# Altium integrated library Analog Devices RF IF Mixers and Multipliers.IntLib: 40 symbols (part 1 of 3)
Pins are listed as number, name and electrical type; pins without a type are passive.

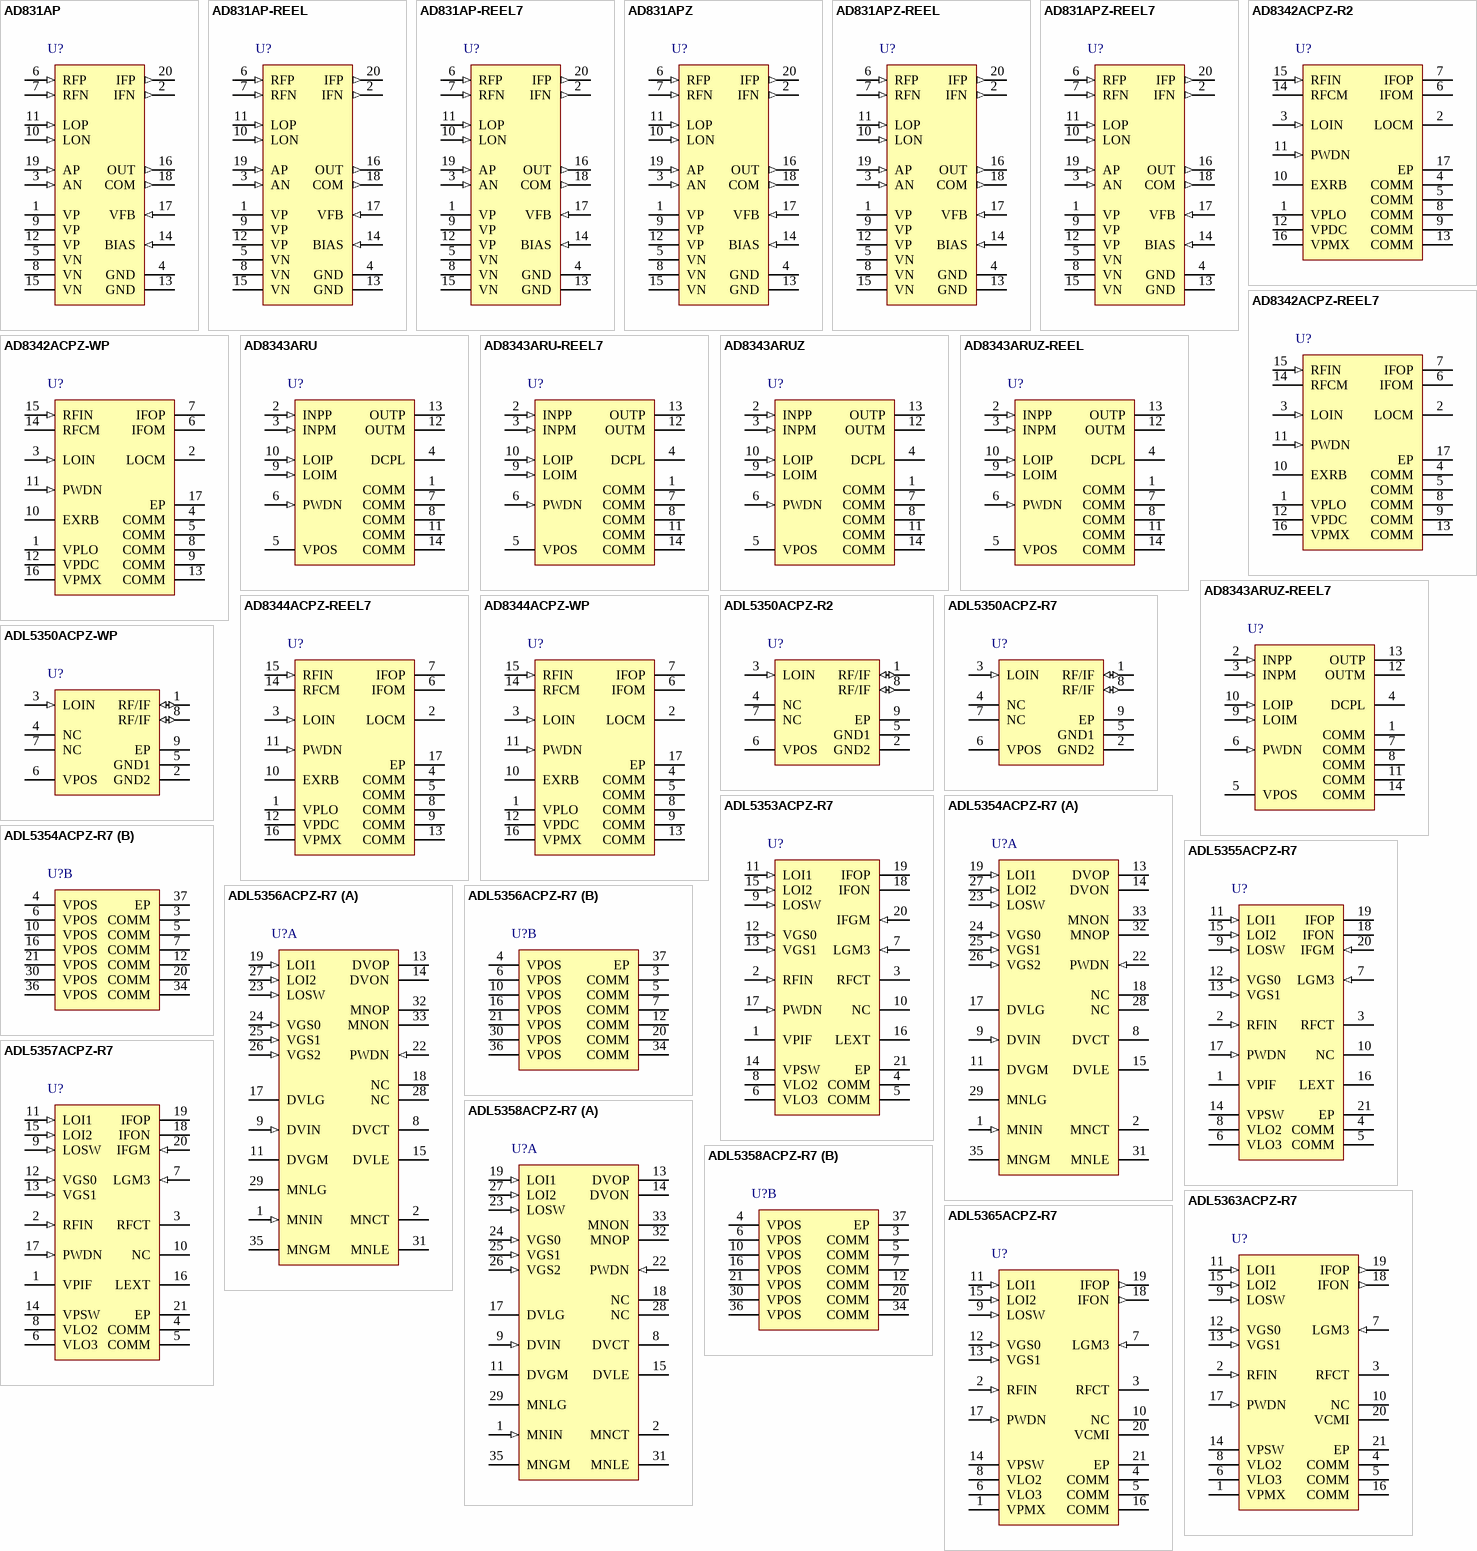
[diagram p0: symbols AD831AP to ADL5365ACPZ-R7]

## AD831AP
designator U?
Low Distortion Mixer, 100mA Supply Current, P-20A, 49 	Tube; RF Frequency (MHZ): 400; IF Frequency (MHz): 200; Conversion Gain (dB): 0dB; IP3 (dBm): 24; P1dB (dBm): 10; NF (dB): 14dB; DatasheetVersion: Rev. C; PackageVersion: Nov-2002; PackageReference: P-20A; PackageDescription: 20-Lead Plastic Leaded Chip Carrier [PLCC]; LO Frequency (MHz): 400; Code_JEDEC: MO-047AA; ComponentLink1Description: Manufacturer URL; ComponentLink1URL: www.analog.com; ComponentLink2Description: Datasheet; ComponentLink2URL: http://www.analog.com/static/imported-files/data_sheets/AD831.pdf; ComponentLink3Description: Package Specification; ComponentLink3URL: http://www.analog.com/static/imported-files/packages/3121431516544404277643669223804694P20A.pdf
footprint ADI-P-20A_N (Leaded Chip Carrier, 20-Leads, Body 9x9mm, Pitch 1.27mm, IPC Medium Density)
footprint ADI-P-20A_L (Leaded Chip Carrier, 20-Leads, Body 9x9mm, Pitch 1.27mm, IPC High Density)
footprint ADI-P-20A_M (Leaded Chip Carrier, 20-Leads, Body 9x9mm, Pitch 1.27mm, IPC Low Density)
pins: 1 VP (power) "Positive Supply Input", 2 IFN (out) "Mixer Current Output", 3 AN (in) "Amplifier Negative Input", 4 GND (power) "Ground", 5 VN (power) "Negative Supply Input", 6 RFP (in) "RF Input", 7 RFN (in) "RF Input", 8 VN (power) "Negative Supply Input", 9 VP (power) "Positive Supply Input", 10 LON (in) "Local Oscillator Input", 11 LOP (in) "Local Oscillator Input", 12 VP (power) "Positive Supply Input", 13 GND (power) "Ground", 14 BIAS (in) "Bias Input", 15 VN (power) "Negative Supply Input", 16 OUT (out) "Amplifier Output", 17 VFB (in) "Amplifier Feedback Input", 18 COM (out) "Amplifier Output Common", 19 AP (in) "Amplifier Positive Input", 20 IFP (out) "Mixer Current Output"

## AD831AP-REEL
designator U?
Low Distortion Mixer, 100mA Supply Current, P-20A, 1000 Reel; RF Frequency (MHZ): 400; IF Frequency (MHz): 200; Conversion Gain (dB): 0dB; IP3 (dBm): 24; P1dB (dBm): 10; NF (dB): 14dB; DatasheetVersion: Rev. C; PackageVersion: Nov-2002; PackageReference: P-20A; PackageDescription: 20-Lead Plastic Leaded Chip Carrier [PLCC]; LO Frequency (MHz): 400; Code_JEDEC: MO-047AA; ComponentLink1Description: Manufacturer URL; ComponentLink1URL: www.analog.com; ComponentLink2Description: Datasheet; ComponentLink2URL: http://www.analog.com/static/imported-files/data_sheets/AD831.pdf; ComponentLink3Description: Package Specification; ComponentLink3URL: http://www.analog.com/static/imported-files/packages/3121431516544404277643669223804694P20A.pdf
footprint ADI-P-20A_N (Leaded Chip Carrier, 20-Leads, Body 9x9mm, Pitch 1.27mm, IPC Medium Density)
footprint ADI-P-20A_L (Leaded Chip Carrier, 20-Leads, Body 9x9mm, Pitch 1.27mm, IPC High Density)
footprint ADI-P-20A_M (Leaded Chip Carrier, 20-Leads, Body 9x9mm, Pitch 1.27mm, IPC Low Density)
pins: 1 VP (power) "Positive Supply Input", 2 IFN (out) "Mixer Current Output", 3 AN (in) "Amplifier Negative Input", 4 GND (power) "Ground", 5 VN (power) "Negative Supply Input", 6 RFP (in) "RF Input", 7 RFN (in) "RF Input", 8 VN (power) "Negative Supply Input", 9 VP (power) "Positive Supply Input", 10 LON (in) "Local Oscillator Input", 11 LOP (in) "Local Oscillator Input", 12 VP (power) "Positive Supply Input", 13 GND (power) "Ground", 14 BIAS (in) "Bias Input", 15 VN (power) "Negative Supply Input", 16 OUT (out) "Amplifier Output", 17 VFB (in) "Amplifier Feedback Input", 18 COM (out) "Amplifier Output Common", 19 AP (in) "Amplifier Positive Input", 20 IFP (out) "Mixer Current Output"

## AD831AP-REEL7
designator U?
Low Distortion Mixer, 100mA Supply Current, P-20A, 250 Reel; RF Frequency (MHZ): 400; IF Frequency (MHz): 200; Conversion Gain (dB): 0dB; IP3 (dBm): 24; P1dB (dBm): 10; NF (dB): 14dB; DatasheetVersion: Rev. C; PackageVersion: Nov-2002; PackageReference: P-20A; PackageDescription: 20-Lead Plastic Leaded Chip Carrier [PLCC]; LO Frequency (MHz): 400; Code_JEDEC: MO-047AA; ComponentLink1Description: Manufacturer URL; ComponentLink1URL: www.analog.com; ComponentLink2Description: Datasheet; ComponentLink2URL: http://www.analog.com/static/imported-files/data_sheets/AD831.pdf; ComponentLink3Description: Package Specification; ComponentLink3URL: http://www.analog.com/static/imported-files/packages/3121431516544404277643669223804694P20A.pdf
footprint ADI-P-20A_N (Leaded Chip Carrier, 20-Leads, Body 9x9mm, Pitch 1.27mm, IPC Medium Density)
footprint ADI-P-20A_L (Leaded Chip Carrier, 20-Leads, Body 9x9mm, Pitch 1.27mm, IPC High Density)
footprint ADI-P-20A_M (Leaded Chip Carrier, 20-Leads, Body 9x9mm, Pitch 1.27mm, IPC Low Density)
pins: 1 VP (power) "Positive Supply Input", 2 IFN (out) "Mixer Current Output", 3 AN (in) "Amplifier Negative Input", 4 GND (power) "Ground", 5 VN (power) "Negative Supply Input", 6 RFP (in) "RF Input", 7 RFN (in) "RF Input", 8 VN (power) "Negative Supply Input", 9 VP (power) "Positive Supply Input", 10 LON (in) "Local Oscillator Input", 11 LOP (in) "Local Oscillator Input", 12 VP (power) "Positive Supply Input", 13 GND (power) "Ground", 14 BIAS (in) "Bias Input", 15 VN (power) "Negative Supply Input", 16 OUT (out) "Amplifier Output", 17 VFB (in) "Amplifier Feedback Input", 18 COM (out) "Amplifier Output Common", 19 AP (in) "Amplifier Positive Input", 20 IFP (out) "Mixer Current Output"

## AD831APZ
designator U?
Low Distortion Mixer, 100mA Supply Current, P-20A, Pb-Free, 49 	Tube; RF Frequency (MHZ): 400; IF Frequency (MHz): 200; Conversion Gain (dB): 0dB; IP3 (dBm): 24; P1dB (dBm): 10; NF (dB): 14dB; DatasheetVersion: Rev. C; PackageVersion: Nov-2002; PackageReference: P-20A; PackageDescription: 20-Lead Plastic Leaded Chip Carrier [PLCC]; LO Frequency (MHz): 400; Code_JEDEC: MO-047AA; ComponentLink1Description: Manufacturer URL; ComponentLink1URL: www.analog.com; ComponentLink2Description: Datasheet; ComponentLink2URL: http://www.analog.com/static/imported-files/data_sheets/AD831.pdf; ComponentLink3Description: Package Specification; ComponentLink3URL: http://www.analog.com/static/imported-files/packages/3121431516544404277643669223804694P20A.pdf
footprint ADI-P-20A_N (Leaded Chip Carrier, 20-Leads, Body 9x9mm, Pitch 1.27mm, IPC Medium Density)
footprint ADI-P-20A_L (Leaded Chip Carrier, 20-Leads, Body 9x9mm, Pitch 1.27mm, IPC High Density)
footprint ADI-P-20A_M (Leaded Chip Carrier, 20-Leads, Body 9x9mm, Pitch 1.27mm, IPC Low Density)
pins: 1 VP (power) "Positive Supply Input", 2 IFN (out) "Mixer Current Output", 3 AN (in) "Amplifier Negative Input", 4 GND (power) "Ground", 5 VN (power) "Negative Supply Input", 6 RFP (in) "RF Input", 7 RFN (in) "RF Input", 8 VN (power) "Negative Supply Input", 9 VP (power) "Positive Supply Input", 10 LON (in) "Local Oscillator Input", 11 LOP (in) "Local Oscillator Input", 12 VP (power) "Positive Supply Input", 13 GND (power) "Ground", 14 BIAS (in) "Bias Input", 15 VN (power) "Negative Supply Input", 16 OUT (out) "Amplifier Output", 17 VFB (in) "Amplifier Feedback Input", 18 COM (out) "Amplifier Output Common", 19 AP (in) "Amplifier Positive Input", 20 IFP (out) "Mixer Current Output"

## AD831APZ-REEL
designator U?
Low Distortion Mixer, 100mA Supply Current, P-20A, Pb-Free, 1000 Reel; RF Frequency (MHZ): 400; IF Frequency (MHz): 200; Conversion Gain (dB): 0dB; IP3 (dBm): 24; P1dB (dBm): 10; NF (dB): 14dB; DatasheetVersion: Rev. C; PackageVersion: Nov-2002; PackageReference: P-20A; PackageDescription: 20-Lead Plastic Leaded Chip Carrier [PLCC]; LO Frequency (MHz): 400; Code_JEDEC: MO-047AA; ComponentLink1Description: Manufacturer URL; ComponentLink1URL: www.analog.com; ComponentLink2Description: Datasheet; ComponentLink2URL: http://www.analog.com/static/imported-files/data_sheets/AD831.pdf; ComponentLink3Description: Package Specification; ComponentLink3URL: http://www.analog.com/static/imported-files/packages/3121431516544404277643669223804694P20A.pdf
footprint ADI-P-20A_N (Leaded Chip Carrier, 20-Leads, Body 9x9mm, Pitch 1.27mm, IPC Medium Density)
footprint ADI-P-20A_L (Leaded Chip Carrier, 20-Leads, Body 9x9mm, Pitch 1.27mm, IPC High Density)
footprint ADI-P-20A_M (Leaded Chip Carrier, 20-Leads, Body 9x9mm, Pitch 1.27mm, IPC Low Density)
pins: 1 VP (power) "Positive Supply Input", 2 IFN (out) "Mixer Current Output", 3 AN (in) "Amplifier Negative Input", 4 GND (power) "Ground", 5 VN (power) "Negative Supply Input", 6 RFP (in) "RF Input", 7 RFN (in) "RF Input", 8 VN (power) "Negative Supply Input", 9 VP (power) "Positive Supply Input", 10 LON (in) "Local Oscillator Input", 11 LOP (in) "Local Oscillator Input", 12 VP (power) "Positive Supply Input", 13 GND (power) "Ground", 14 BIAS (in) "Bias Input", 15 VN (power) "Negative Supply Input", 16 OUT (out) "Amplifier Output", 17 VFB (in) "Amplifier Feedback Input", 18 COM (out) "Amplifier Output Common", 19 AP (in) "Amplifier Positive Input", 20 IFP (out) "Mixer Current Output"

## AD831APZ-REEL7
designator U?
Low Distortion Mixer, 100mA Supply Current, P-20A, Pb-Free, 250 Reel; RF Frequency (MHZ): 400; IF Frequency (MHz): 200; Conversion Gain (dB): 0dB; IP3 (dBm): 24; P1dB (dBm): 10; NF (dB): 14dB; DatasheetVersion: Rev. C; PackageVersion: Nov-2002; PackageReference: P-20A; PackageDescription: 20-Lead Plastic Leaded Chip Carrier [PLCC]; LO Frequency (MHz): 400; Code_JEDEC: MO-047AA; ComponentLink1Description: Manufacturer URL; ComponentLink1URL: www.analog.com; ComponentLink2Description: Datasheet; ComponentLink2URL: http://www.analog.com/static/imported-files/data_sheets/AD831.pdf; ComponentLink3Description: Package Specification; ComponentLink3URL: http://www.analog.com/static/imported-files/packages/3121431516544404277643669223804694P20A.pdf
footprint ADI-P-20A_N (Leaded Chip Carrier, 20-Leads, Body 9x9mm, Pitch 1.27mm, IPC Medium Density)
footprint ADI-P-20A_L (Leaded Chip Carrier, 20-Leads, Body 9x9mm, Pitch 1.27mm, IPC High Density)
footprint ADI-P-20A_M (Leaded Chip Carrier, 20-Leads, Body 9x9mm, Pitch 1.27mm, IPC Low Density)
pins: 1 VP (power) "Positive Supply Input", 2 IFN (out) "Mixer Current Output", 3 AN (in) "Amplifier Negative Input", 4 GND (power) "Ground", 5 VN (power) "Negative Supply Input", 6 RFP (in) "RF Input", 7 RFN (in) "RF Input", 8 VN (power) "Negative Supply Input", 9 VP (power) "Positive Supply Input", 10 LON (in) "Local Oscillator Input", 11 LOP (in) "Local Oscillator Input", 12 VP (power) "Positive Supply Input", 13 GND (power) "Ground", 14 BIAS (in) "Bias Input", 15 VN (power) "Negative Supply Input", 16 OUT (out) "Amplifier Output", 17 VFB (in) "Amplifier Feedback Input", 18 COM (out) "Amplifier Output Common", 19 AP (in) "Amplifier Positive Input", 20 IFP (out) "Mixer Current Output"

## AD8342ACPZ-R2
designator U?
Active Receive Mixer LF to 3 GHz, 97mA Supply Current, CP-16-3, Pb-Free, 250 Reel; RF Frequency (MHZ): LF to 2400; Conversion Gain (dB): 3dB; IP3 (dBm): 24; P1dB (dBm): 8.5; NF (dB): 12dB; DatasheetVersion: Rev. B; PackageVersion: Jan-2005; PackageReference: CP-16-3; PackageDescription: 16-Lead Lead Frame Chip Scale Package [LFCSP_VQ]; IF Frequency (MHz): LF to 2400; LO Frequency (MHz): LF to 2400; Code_JEDEC: MO-220-VEED-2; ComponentLink1Description: Manufacturer URL; ComponentLink1URL: www.analog.com; ComponentLink2Description: Datasheet; ComponentLink2URL: http://www.analog.com/static/imported-files/data_sheets/AD8342.pdf; ComponentLink3Description: Package Specification; ComponentLink3URL: http://www.analog.com/static/imported-files/packages/PKG_PDF/LFCSP(CP)/CP_16_3.pdf
footprint ADI-CP-16-3_N (QFN, 16-Leads, Body 3x3mm, Pitch 0.5mm, Thermal Pad 1.5x1.5mm, IPC Medium Density)
footprint ADI-CP-16-3_L (QFN, 16-Leads, Body 3x3mm, Pitch 0.5mm, Thermal Pad 1.5x1.5mm, IPC High Density)
footprint ADI-CP-16-3_M (QFN, 16-Leads, Body 3x3mm, Pitch 0.5mm, Thermal Pad 1.5x1.5mm, IPC Low Density)
pins: 1 VPLO (power) "Positive Supply Voltage for the LO Buffer: 4.75 V to 5.25 V.", 2 LOCM "AC Ground for Limiting LO Amplifier, AC-Coupled to Ground.", 3 LOIN (in) "LO Input. Nominal input level 0 dBm, input level range -10 dBm to +4 dBm, re: 50 ?, ac-coupled.", 4 COMM (power) "Device Common (DC Ground).", 5 COMM (power) "Device Common (DC Ground).", 6 IFOM (oc) "Differential IF Outputs; Open Collectors, Each Requires DC Bias of 5.00 V (Nominal).", 7 IFOP (oc) "Differential IF Outputs; Open Collectors, Each Requires DC Bias of 5.00 V (Nominal).", 8 COMM (power) "Device Common (DC Ground).", 9 COMM (power) "Device Common (DC Ground).", 10 EXRB "Mixer Bias Voltage, Connect Resistor from EXRB to Ground, Typical Value of 2.43 k ohm  Sets Mixer Current to Nominal Value. Minimum resistor value from EXRB to ground = 2.4 k ohm.", 11 PWDN (in) "Connect to Ground for Normal Operation. Connect pin to VS for disable mode.", 12 VPDC (power) "Positive Supply Voltage for the DC Bias Cell: 4.75 V to 5.25 V.", 13 COMM (power) "Device Common (DC Ground).", 14 RFCM "AC Ground for RF Input, AC-Coupled to Ground.", 15 RFIN (in) "RF Input. Must be ac-coupled.", 16 VPMX (power) "Positive Supply Voltage for the Mixer: 4.75 V to 5.25 V.", 17 EP (power) "Exposed pad."

## AD8342ACPZ-REEL7
designator U?
Active Receive Mixer LF to 3 GHz, 97mA Supply Current, CP-16-3, Pb-Free, 1500 Reel; RF Frequency (MHZ): LF to 2400; Conversion Gain (dB): 3dB; IP3 (dBm): 24; P1dB (dBm): 8.5; NF (dB): 12dB; DatasheetVersion: Rev. B; PackageVersion: Jan-2005; PackageReference: CP-16-3; PackageDescription: 16-Lead Lead Frame Chip Scale Package [LFCSP_VQ]; IF Frequency (MHz): LF to 2400; LO Frequency (MHz): LF to 2400; Code_JEDEC: MO-220-VEED-2; ComponentLink1Description: Manufacturer URL; ComponentLink1URL: www.analog.com; ComponentLink2Description: Datasheet; ComponentLink2URL: http://www.analog.com/static/imported-files/data_sheets/AD8342.pdf; ComponentLink3Description: Package Specification; ComponentLink3URL: http://www.analog.com/static/imported-files/packages/PKG_PDF/LFCSP(CP)/CP_16_3.pdf
footprint ADI-CP-16-3_N (QFN, 16-Leads, Body 3x3mm, Pitch 0.5mm, Thermal Pad 1.5x1.5mm, IPC Medium Density)
footprint ADI-CP-16-3_L (QFN, 16-Leads, Body 3x3mm, Pitch 0.5mm, Thermal Pad 1.5x1.5mm, IPC High Density)
footprint ADI-CP-16-3_M (QFN, 16-Leads, Body 3x3mm, Pitch 0.5mm, Thermal Pad 1.5x1.5mm, IPC Low Density)
pins: 1 VPLO (power) "Positive Supply Voltage for the LO Buffer: 4.75 V to 5.25 V.", 2 LOCM "AC Ground for Limiting LO Amplifier, AC-Coupled to Ground.", 3 LOIN (in) "LO Input. Nominal input level 0 dBm, input level range -10 dBm to +4 dBm, re: 50 ?, ac-coupled.", 4 COMM (power) "Device Common (DC Ground).", 5 COMM (power) "Device Common (DC Ground).", 6 IFOM (oc) "Differential IF Outputs; Open Collectors, Each Requires DC Bias of 5.00 V (Nominal).", 7 IFOP (oc) "Differential IF Outputs; Open Collectors, Each Requires DC Bias of 5.00 V (Nominal).", 8 COMM (power) "Device Common (DC Ground).", 9 COMM (power) "Device Common (DC Ground).", 10 EXRB "Mixer Bias Voltage, Connect Resistor from EXRB to Ground, Typical Value of 2.43 k ohm  Sets Mixer Current to Nominal Value. Minimum resistor value from EXRB to ground = 2.4 k ohm.", 11 PWDN (in) "Connect to Ground for Normal Operation. Connect pin to VS for disable mode.", 12 VPDC (power) "Positive Supply Voltage for the DC Bias Cell: 4.75 V to 5.25 V.", 13 COMM (power) "Device Common (DC Ground).", 14 RFCM "AC Ground for RF Input, AC-Coupled to Ground.", 15 RFIN (in) "RF Input. Must be ac-coupled.", 16 VPMX (power) "Positive Supply Voltage for the Mixer: 4.75 V to 5.25 V.", 17 EP (power) "Exposed pad."

## AD8342ACPZ-WP
designator U?
Active Receive Mixer LF to 3 GHz, 97mA Supply Current, CP-16-3, Pb-Free, 50 Tray; RF Frequency (MHZ): LF to 2400; Conversion Gain (dB): 3dB; IP3 (dBm): 24; P1dB (dBm): 8.5; NF (dB): 12dB; DatasheetVersion: Rev. B; PackageVersion: Jan-2005; PackageReference: CP-16-3; PackageDescription: 16-Lead Lead Frame Chip Scale Package [LFCSP_VQ]; IF Frequency (MHz): LF to 2400; LO Frequency (MHz): LF to 2400; Code_JEDEC: MO-220-VEED-2; ComponentLink1Description: Manufacturer URL; ComponentLink1URL: www.analog.com; ComponentLink2Description: Datasheet; ComponentLink2URL: http://www.analog.com/static/imported-files/data_sheets/AD8342.pdf; ComponentLink3Description: Package Specification; ComponentLink3URL: http://www.analog.com/static/imported-files/packages/PKG_PDF/LFCSP(CP)/CP_16_3.pdf
footprint ADI-CP-16-3_N (QFN, 16-Leads, Body 3x3mm, Pitch 0.5mm, Thermal Pad 1.5x1.5mm, IPC Medium Density)
footprint ADI-CP-16-3_L (QFN, 16-Leads, Body 3x3mm, Pitch 0.5mm, Thermal Pad 1.5x1.5mm, IPC High Density)
footprint ADI-CP-16-3_M (QFN, 16-Leads, Body 3x3mm, Pitch 0.5mm, Thermal Pad 1.5x1.5mm, IPC Low Density)
pins: 1 VPLO (power) "Positive Supply Voltage for the LO Buffer: 4.75 V to 5.25 V.", 2 LOCM "AC Ground for Limiting LO Amplifier, AC-Coupled to Ground.", 3 LOIN (in) "LO Input. Nominal input level 0 dBm, input level range -10 dBm to +4 dBm, re: 50 ?, ac-coupled.", 4 COMM (power) "Device Common (DC Ground).", 5 COMM (power) "Device Common (DC Ground).", 6 IFOM (oc) "Differential IF Outputs; Open Collectors, Each Requires DC Bias of 5.00 V (Nominal).", 7 IFOP (oc) "Differential IF Outputs; Open Collectors, Each Requires DC Bias of 5.00 V (Nominal).", 8 COMM (power) "Device Common (DC Ground).", 9 COMM (power) "Device Common (DC Ground).", 10 EXRB "Mixer Bias Voltage, Connect Resistor from EXRB to Ground, Typical Value of 2.43 k ohm  Sets Mixer Current to Nominal Value. Minimum resistor value from EXRB to ground = 2.4 k ohm.", 11 PWDN (in) "Connect to Ground for Normal Operation. Connect pin to VS for disable mode.", 12 VPDC (power) "Positive Supply Voltage for the DC Bias Cell: 4.75 V to 5.25 V.", 13 COMM (power) "Device Common (DC Ground).", 14 RFCM "AC Ground for RF Input, AC-Coupled to Ground.", 15 RFIN (in) "RF Input. Must be ac-coupled.", 16 VPMX (power) "Positive Supply Voltage for the Mixer: 4.75 V to 5.25 V.", 17 EP (power) "Exposed pad."

## AD8343ARU
designator U?
DC-to-2.5 GHz High IP3 Active Mixer, 50mA Supply Current, RU-14, 96 Tube; RF Frequency (MHZ): dc to 2500; LO Drive (dBm): 10; Conversion Gain (dB): 7dB; IP3 (dBm): 16.5; P1dB (dBm): 2.8; NF (dB): 14dB; DatasheetVersion: Rev. B; PackageVersion: Aug-2002; PackageReference: RU-14; PackageDescription: 14-Lead Thin Shrink Small Outline Package [TSSOP]; IF Frequency (MHz): dc to 2500; LO Frequency (MHz): dc to 2500; Code_JEDEC: MO-153AB-1; ComponentLink1Description: Manufacturer URL; ComponentLink1URL: www.analog.com; ComponentLink2Description: Datasheet; ComponentLink2URL: http://www.analog.com/static/imported-files/data_sheets/AD8343.pdf; ComponentLink3Description: Package Specification; ComponentLink3URL: http://www.analog.com/static/imported-files/packages/36057385283879153717235186773RU14.pdf
footprint ADI-RU-14_N (TSOP, 14-Leads, Body 5x4.4mm, Pitch 0.65mm, IPC Medium Density)
footprint ADI-RU-14_L (TSOP, 14-Leads, Body 5x4.4mm, Pitch 0.65mm, IPC High Density)
footprint ADI-RU-14_M (TSOP, 14-Leads, Body 5x4.4mm, Pitch 0.65mm, IPC Low Density)
pins: 1 COMM (power) "Connect to low impedance circuit ground.", 2 INPP (in) "Differential Input Pin. This pin needs to be dc-biased and typically ac-coupled; see Figure 3.", 3 INPM (in) "Differential Input Pin. This pin needs to be dc-biased and typically ac-coupled; see Figure 3.", 4 DCPL "Bias rail decoupling capacitor connection for LO driver; see Figure 6.", 5 VPOS (power) "Positive Supply Voltage (VS), 4.5 V to 5.5 V. Ensure adequate supply bypassing for proper device operation as shown in the Applications section", 6 PWDN (in) "Power-Down Interface. Connect pin to ground for normal operating mode. Connect pin to supply for powerdown mode; see Figure 5", 7 COMM (power) "Connect to low impedance circuit ground.", 8 COMM (power) "Connect to low impedance circuit ground.", 9 LOIM (in) "Differential Local Oscillator (LO) Input Pin. Typically ac-coupled; see Figure 4", 10 LOIP (in) "Differential Local Oscillator (LO) Input Pin. Typically ac-coupled; see Figure 4", 11 COMM (power) "Connect to low impedance circuit ground.", 12 OUTM (oc) "Open-Collector Differential Output Pin. This pin needs to be dc-biased and (usually) ac-coupled; see Figure 3.", 13 OUTP (oc) "Open-Collector Differential Output Pin. This pin needs to be dc-biased and (usually) ac-coupled; see Figure 3.", 14 COMM (power) "Connect to low impedance circuit ground."

## AD8343ARU-REEL7
designator U?
DC-to-2.5 GHz High IP3 Active Mixer, 50mA Supply Current, RU-14, 1000 Reel; RF Frequency (MHZ): dc to 2500; LO Drive (dBm): 10; Conversion Gain (dB): 7dB; IP3 (dBm): 16.5; P1dB (dBm): 2.8; NF (dB): 14dB; DatasheetVersion: Rev. B; PackageVersion: Aug-2002; PackageReference: RU-14; PackageDescription: 14-Lead Thin Shrink Small Outline Package [TSSOP]; IF Frequency (MHz): dc to 2500; LO Frequency (MHz): dc to 2500; Code_JEDEC: MO-153AB-1; ComponentLink1Description: Manufacturer URL; ComponentLink1URL: www.analog.com; ComponentLink2Description: Datasheet; ComponentLink2URL: http://www.analog.com/static/imported-files/data_sheets/AD8343.pdf; ComponentLink3Description: Package Specification; ComponentLink3URL: http://www.analog.com/static/imported-files/packages/36057385283879153717235186773RU14.pdf
footprint ADI-RU-14_N (TSOP, 14-Leads, Body 5x4.4mm, Pitch 0.65mm, IPC Medium Density)
footprint ADI-RU-14_L (TSOP, 14-Leads, Body 5x4.4mm, Pitch 0.65mm, IPC High Density)
footprint ADI-RU-14_M (TSOP, 14-Leads, Body 5x4.4mm, Pitch 0.65mm, IPC Low Density)
pins: 1 COMM (power) "Connect to low impedance circuit ground.", 2 INPP (in) "Differential Input Pin. This pin needs to be dc-biased and typically ac-coupled; see Figure 3.", 3 INPM (in) "Differential Input Pin. This pin needs to be dc-biased and typically ac-coupled; see Figure 3.", 4 DCPL "Bias rail decoupling capacitor connection for LO driver; see Figure 6.", 5 VPOS (power) "Positive Supply Voltage (VS), 4.5 V to 5.5 V. Ensure adequate supply bypassing for proper device operation as shown in the Applications section", 6 PWDN (in) "Power-Down Interface. Connect pin to ground for normal operating mode. Connect pin to supply for powerdown mode; see Figure 5", 7 COMM (power) "Connect to low impedance circuit ground.", 8 COMM (power) "Connect to low impedance circuit ground.", 9 LOIM (in) "Differential Local Oscillator (LO) Input Pin. Typically ac-coupled; see Figure 4", 10 LOIP (in) "Differential Local Oscillator (LO) Input Pin. Typically ac-coupled; see Figure 4", 11 COMM (power) "Connect to low impedance circuit ground.", 12 OUTM (oc) "Open-Collector Differential Output Pin. This pin needs to be dc-biased and (usually) ac-coupled; see Figure 3.", 13 OUTP (oc) "Open-Collector Differential Output Pin. This pin needs to be dc-biased and (usually) ac-coupled; see Figure 3.", 14 COMM (power) "Connect to low impedance circuit ground."

## AD8343ARUZ
designator U?
DC-to-2.5 GHz High IP3 Active Mixer, 50mA Supply Current, RU-14, Pb-Free, 96 Tube; RF Frequency (MHZ): dc to 2500; LO Drive (dBm): 10; Conversion Gain (dB): 7dB; IP3 (dBm): 16.5; P1dB (dBm): 2.8; NF (dB): 14dB; DatasheetVersion: Rev. B; PackageVersion: Aug-2002; PackageReference: RU-14; PackageDescription: 14-Lead Thin Shrink Small Outline Package [TSSOP]; IF Frequency (MHz): dc to 2500; LO Frequency (MHz): dc to 2500; Code_JEDEC: MO-153AB-1; ComponentLink1Description: Manufacturer URL; ComponentLink1URL: www.analog.com; ComponentLink2Description: Datasheet; ComponentLink2URL: http://www.analog.com/static/imported-files/data_sheets/AD8343.pdf; ComponentLink3Description: Package Specification; ComponentLink3URL: http://www.analog.com/static/imported-files/packages/36057385283879153717235186773RU14.pdf
footprint ADI-RU-14_N (TSOP, 14-Leads, Body 5x4.4mm, Pitch 0.65mm, IPC Medium Density)
footprint ADI-RU-14_L (TSOP, 14-Leads, Body 5x4.4mm, Pitch 0.65mm, IPC High Density)
footprint ADI-RU-14_M (TSOP, 14-Leads, Body 5x4.4mm, Pitch 0.65mm, IPC Low Density)
pins: 1 COMM (power) "Connect to low impedance circuit ground.", 2 INPP (in) "Differential Input Pin. This pin needs to be dc-biased and typically ac-coupled; see Figure 3.", 3 INPM (in) "Differential Input Pin. This pin needs to be dc-biased and typically ac-coupled; see Figure 3.", 4 DCPL "Bias rail decoupling capacitor connection for LO driver; see Figure 6.", 5 VPOS (power) "Positive Supply Voltage (VS), 4.5 V to 5.5 V. Ensure adequate supply bypassing for proper device operation as shown in the Applications section", 6 PWDN (in) "Power-Down Interface. Connect pin to ground for normal operating mode. Connect pin to supply for powerdown mode; see Figure 5", 7 COMM (power) "Connect to low impedance circuit ground.", 8 COMM (power) "Connect to low impedance circuit ground.", 9 LOIM (in) "Differential Local Oscillator (LO) Input Pin. Typically ac-coupled; see Figure 4", 10 LOIP (in) "Differential Local Oscillator (LO) Input Pin. Typically ac-coupled; see Figure 4", 11 COMM (power) "Connect to low impedance circuit ground.", 12 OUTM (oc) "Open-Collector Differential Output Pin. This pin needs to be dc-biased and (usually) ac-coupled; see Figure 3.", 13 OUTP (oc) "Open-Collector Differential Output Pin. This pin needs to be dc-biased and (usually) ac-coupled; see Figure 3.", 14 COMM (power) "Connect to low impedance circuit ground."

## AD8343ARUZ-REEL
designator U?
DC-to-2.5 GHz High IP3 Active Mixer, 50mA Supply Current, RU-14, Pb-Free, 2500 Reel; RF Frequency (MHZ): dc to 2500; LO Drive (dBm): 10; Conversion Gain (dB): 7dB; IP3 (dBm): 16.5; P1dB (dBm): 2.8; NF (dB): 14dB; DatasheetVersion: Rev. B; PackageVersion: Aug-2002; PackageReference: RU-14; PackageDescription: 14-Lead Thin Shrink Small Outline Package [TSSOP]; IF Frequency (MHz): dc to 2500; LO Frequency (MHz): dc to 2500; Code_JEDEC: MO-153AB-1; ComponentLink1Description: Manufacturer URL; ComponentLink1URL: www.analog.com; ComponentLink2Description: Datasheet; ComponentLink2URL: http://www.analog.com/static/imported-files/data_sheets/AD8343.pdf; ComponentLink3Description: Package Specification; ComponentLink3URL: http://www.analog.com/static/imported-files/packages/36057385283879153717235186773RU14.pdf
footprint ADI-RU-14_N (TSOP, 14-Leads, Body 5x4.4mm, Pitch 0.65mm, IPC Medium Density)
footprint ADI-RU-14_L (TSOP, 14-Leads, Body 5x4.4mm, Pitch 0.65mm, IPC High Density)
footprint ADI-RU-14_M (TSOP, 14-Leads, Body 5x4.4mm, Pitch 0.65mm, IPC Low Density)
pins: 1 COMM (power) "Connect to low impedance circuit ground.", 2 INPP (in) "Differential Input Pin. This pin needs to be dc-biased and typically ac-coupled; see Figure 3.", 3 INPM (in) "Differential Input Pin. This pin needs to be dc-biased and typically ac-coupled; see Figure 3.", 4 DCPL "Bias rail decoupling capacitor connection for LO driver; see Figure 6.", 5 VPOS (power) "Positive Supply Voltage (VS), 4.5 V to 5.5 V. Ensure adequate supply bypassing for proper device operation as shown in the Applications section", 6 PWDN (in) "Power-Down Interface. Connect pin to ground for normal operating mode. Connect pin to supply for powerdown mode; see Figure 5", 7 COMM (power) "Connect to low impedance circuit ground.", 8 COMM (power) "Connect to low impedance circuit ground.", 9 LOIM (in) "Differential Local Oscillator (LO) Input Pin. Typically ac-coupled; see Figure 4", 10 LOIP (in) "Differential Local Oscillator (LO) Input Pin. Typically ac-coupled; see Figure 4", 11 COMM (power) "Connect to low impedance circuit ground.", 12 OUTM (oc) "Open-Collector Differential Output Pin. This pin needs to be dc-biased and (usually) ac-coupled; see Figure 3.", 13 OUTP (oc) "Open-Collector Differential Output Pin. This pin needs to be dc-biased and (usually) ac-coupled; see Figure 3.", 14 COMM (power) "Connect to low impedance circuit ground."

## AD8343ARUZ-REEL7
designator U?
DC-to-2.5 GHz High IP3 Active Mixer, 50mA Supply Current, RU-14, Pb-Free, 1000 Reel; RF Frequency (MHZ): dc to 2500; LO Drive (dBm): 10; Conversion Gain (dB): 7dB; IP3 (dBm): 16.5; P1dB (dBm): 2.8; NF (dB): 14dB; DatasheetVersion: Rev. B; PackageVersion: Aug-2002; PackageReference: RU-14; PackageDescription: 14-Lead Thin Shrink Small Outline Package [TSSOP]; IF Frequency (MHz): dc to 2500; LO Frequency (MHz): dc to 2500; Code_JEDEC: MO-153AB-1; ComponentLink1Description: Manufacturer URL; ComponentLink1URL: www.analog.com; ComponentLink2Description: Datasheet; ComponentLink2URL: http://www.analog.com/static/imported-files/data_sheets/AD8343.pdf; ComponentLink3Description: Package Specification; ComponentLink3URL: http://www.analog.com/static/imported-files/packages/36057385283879153717235186773RU14.pdf
footprint ADI-RU-14_N (TSOP, 14-Leads, Body 5x4.4mm, Pitch 0.65mm, IPC Medium Density)
footprint ADI-RU-14_L (TSOP, 14-Leads, Body 5x4.4mm, Pitch 0.65mm, IPC High Density)
footprint ADI-RU-14_M (TSOP, 14-Leads, Body 5x4.4mm, Pitch 0.65mm, IPC Low Density)
pins: 1 COMM (power) "Connect to low impedance circuit ground.", 2 INPP (in) "Differential Input Pin. This pin needs to be dc-biased and typically ac-coupled; see Figure 3.", 3 INPM (in) "Differential Input Pin. This pin needs to be dc-biased and typically ac-coupled; see Figure 3.", 4 DCPL "Bias rail decoupling capacitor connection for LO driver; see Figure 6.", 5 VPOS (power) "Positive Supply Voltage (VS), 4.5 V to 5.5 V. Ensure adequate supply bypassing for proper device operation as shown in the Applications section", 6 PWDN (in) "Power-Down Interface. Connect pin to ground for normal operating mode. Connect pin to supply for powerdown mode; see Figure 5", 7 COMM (power) "Connect to low impedance circuit ground.", 8 COMM (power) "Connect to low impedance circuit ground.", 9 LOIM (in) "Differential Local Oscillator (LO) Input Pin. Typically ac-coupled; see Figure 4", 10 LOIP (in) "Differential Local Oscillator (LO) Input Pin. Typically ac-coupled; see Figure 4", 11 COMM (power) "Connect to low impedance circuit ground.", 12 OUTM (oc) "Open-Collector Differential Output Pin. This pin needs to be dc-biased and (usually) ac-coupled; see Figure 3.", 13 OUTP (oc) "Open-Collector Differential Output Pin. This pin needs to be dc-biased and (usually) ac-coupled; see Figure 3.", 14 COMM (power) "Connect to low impedance circuit ground."

## AD8344ACPZ-REEL7
designator U?
Active Receive Mixer 400 MHz to 1.2 GHz, 84mA Supply Current, CP-16-3, Pb-Free, 1500 Reel; RF Frequency (MHZ): 400 to 1200; IF Frequency (MHz): 70 to 400; LO Frequency (MHz): 470 to 1600; Conversion Gain (dB): 4.5dB; IP3 (dBm): 24; P1dB (dBm): 8.5; NF (dB): 10dB; DatasheetVersion: Rev. 0; PackageVersion: Jan-2005; PackageReference: CP-16-3; PackageDescription: 16-Lead Lead Frame Chip Scale Package [LFCSP_VQ]; Code_JEDEC: MO-220-VEED-2; ComponentLink1Description: Manufacturer URL; ComponentLink1URL: www.analog.com; ComponentLink2Description: Datasheet; ComponentLink2URL: http://www.analog.com/static/imported-files/data_sheets/AD8344.pdf; ComponentLink3Description: Package Specification; ComponentLink3URL: http://www.analog.com/static/imported-files/packages/PKG_PDF/LFCSP(CP)/CP_16_3.pdf
footprint ADI-CP-16-3_N (QFN, 16-Leads, Body 3x3mm, Pitch 0.5mm, Thermal Pad 1.5x1.5mm, IPC Medium Density)
footprint ADI-CP-16-3_L (QFN, 16-Leads, Body 3x3mm, Pitch 0.5mm, Thermal Pad 1.5x1.5mm, IPC High Density)
footprint ADI-CP-16-3_M (QFN, 16-Leads, Body 3x3mm, Pitch 0.5mm, Thermal Pad 1.5x1.5mm, IPC Low Density)
pins: 1 VPLO (power) "Positive Supply Voltage for the LO Buffer: 4.75 V to 5.25 V.", 2 LOCM "AC Ground for Limiting LO Amplifier, AC-Coupled to Ground.", 3 LOIN (in) "LO Input. Nominal input level 0 dBm, input level range -10 dBm to +4 dBm, re: 50 ?, ac-coupled.", 4 COMM (power) "Device Common (DC Ground).", 5 COMM (power) "Device Common (DC Ground).", 6 IFOM (oc) "Differential IF Outputs; Open Collectors, Each Requires DC Bias of 5.00 V (Nominal).", 7 IFOP (oc) "Differential IF Outputs; Open Collectors, Each Requires DC Bias of 5.00 V (Nominal).", 8 COMM (power) "Device Common (DC Ground).", 9 COMM (power) "Device Common (DC Ground).", 10 EXRB "Mixer Bias Voltage, Connect Resistor from EXRB to Ground, Typical Value of 2.43 kOHM  Sets Mixer Current to Nominal Value. Minimum resistor value from EXRB to ground = 2.4 kOHM.", 11 PWDN (in) "Connect to Ground for Normal Operation. Connect pin to VS for disable mode.", 12 VPDC (power) "Positive Supply Voltage for the DC Bias Cell: 4.75 V to 5.25 V.", 13 COMM (power) "Device Common (DC Ground).", 14 RFCM "AC Ground for RF Input, AC-Coupled to Ground.", 15 RFIN (in) "RF Input. Must be ac-coupled.", 16 VPMX (power) "Positive Supply Voltage for the Mixer: 4.75 V to 5.25 V.", 17 EP (power) "Exposed pad."

## AD8344ACPZ-WP
designator U?
Active Receive Mixer 400 MHz to 1.2 GHz, 84mA Supply Current, CP-16-3, Pb-Free, 50 Tray; RF Frequency (MHZ): 400 to 1200; IF Frequency (MHz): 70 to 400; LO Frequency (MHz): 470 to 1600; Conversion Gain (dB): 4.5dB; IP3 (dBm): 24; P1dB (dBm): 8.5; NF (dB): 10dB; DatasheetVersion: Rev. 0; PackageVersion: Jan-2005; PackageReference: CP-16-3; PackageDescription: 16-Lead Lead Frame Chip Scale Package [LFCSP_VQ]; Code_JEDEC: MO-220-VEED-2; ComponentLink1Description: Manufacturer URL; ComponentLink1URL: www.analog.com; ComponentLink2Description: Datasheet; ComponentLink2URL: http://www.analog.com/static/imported-files/data_sheets/AD8344.pdf; ComponentLink3Description: Package Specification; ComponentLink3URL: http://www.analog.com/static/imported-files/packages/PKG_PDF/LFCSP(CP)/CP_16_3.pdf
footprint ADI-CP-16-3_N (QFN, 16-Leads, Body 3x3mm, Pitch 0.5mm, Thermal Pad 1.5x1.5mm, IPC Medium Density)
footprint ADI-CP-16-3_L (QFN, 16-Leads, Body 3x3mm, Pitch 0.5mm, Thermal Pad 1.5x1.5mm, IPC High Density)
footprint ADI-CP-16-3_M (QFN, 16-Leads, Body 3x3mm, Pitch 0.5mm, Thermal Pad 1.5x1.5mm, IPC Low Density)
pins: 1 VPLO (power) "Positive Supply Voltage for the LO Buffer: 4.75 V to 5.25 V.", 2 LOCM "AC Ground for Limiting LO Amplifier, AC-Coupled to Ground.", 3 LOIN (in) "LO Input. Nominal input level 0 dBm, input level range -10 dBm to +4 dBm, re: 50 ?, ac-coupled.", 4 COMM (power) "Device Common (DC Ground).", 5 COMM (power) "Device Common (DC Ground).", 6 IFOM (oc) "Differential IF Outputs; Open Collectors, Each Requires DC Bias of 5.00 V (Nominal).", 7 IFOP (oc) "Differential IF Outputs; Open Collectors, Each Requires DC Bias of 5.00 V (Nominal).", 8 COMM (power) "Device Common (DC Ground).", 9 COMM (power) "Device Common (DC Ground).", 10 EXRB "Mixer Bias Voltage, Connect Resistor from EXRB to Ground, Typical Value of 2.43 kOHM  Sets Mixer Current to Nominal Value. Minimum resistor value from EXRB to ground = 2.4 kOHM.", 11 PWDN (in) "Connect to Ground for Normal Operation. Connect pin to VS for disable mode.", 12 VPDC (power) "Positive Supply Voltage for the DC Bias Cell: 4.75 V to 5.25 V.", 13 COMM (power) "Device Common (DC Ground).", 14 RFCM "AC Ground for RF Input, AC-Coupled to Ground.", 15 RFIN (in) "RF Input. Must be ac-coupled.", 16 VPMX (power) "Positive Supply Voltage for the Mixer: 4.75 V to 5.25 V.", 17 EP (power) "Exposed pad."

## ADL5350ACPZ-R2
designator U?
LF to 4 GHz High Linearity Y-Mixer, 19mA Supply Current, CP-8-1, Pb-Free, 250 Reel; RF Frequency (MHZ): LF to 4000; LO Drive (dBm): 4; Conversion Gain (dB): 6.8dB; IP3 (dBm): 25; P1dB (dBm): 19; NF (dB): 6.5dB; DatasheetVersion: Rev. 0; PackageVersion: 031207-A; PackageReference: CP-8-1; PackageDescription: 8-Lead Lead Frame Chip Scale Package [LFCSP_VD]; IF Frequency (MHz): LF to 4000; LO Frequency (MHz): LF to 4000; ComponentLink1Description: Manufacturer URL; ComponentLink1URL: www.analog.com; ComponentLink2Description: Datasheet; ComponentLink2URL: http://www.analog.com/static/imported-files/data_sheets/ADL5350.pdf; ComponentLink3Description: Package Specification; ComponentLink3URL: http://www.analog.com/static/imported-files/packages/PKG_PDF/LFCSP(CP)/CP-8/CP_8_1.pdf
footprint ADI-CP-8-1_N (SON, 8-Leads, Body 3x2mm, Pitch 0.5mm, Thermal Pad 1.75x0.45mm, IPC Medium Density)
footprint ADI-CP-8-1_L (SON, 8-Leads, Body 3x2mm, Pitch 0.5mm, Thermal Pad 1.75x0.45mm, IPC High Density)
footprint ADI-CP-8-1_M (SON, 8-Leads, Body 3x2mm, Pitch 0.5mm, Thermal Pad 1.75x0.45mm, IPC Low Density)
pins: 1 RF/IF (io) "Input/Output Ports. These nodes are internally tied together. RF and IF port separation is achieved using external tuning networks.", 2 GND2 (power) "Device Common (DC Ground)", 3 LOIN (in) "LO Input. Needs to be ac-coupled.", 4 NC "No Connect. Grounding NC pins is recommended.", 5 GND1 (power) "Device Common (DC Ground)", 6 VPOS (power) "Positive Supply Voltage for the Drain of the LO Buffer. A series RF choke is needed on the supply line to provide proper ac loading of the LO buffer amplifier.", 7 NC "No Connect. Grounding NC pins is recommended.", 8 RF/IF (io) "IF Input/Output Ports. These nodes are internally tied together. RF and IF port separation is achieved using external tuning networks.", 9 EP (power) "Exposed pad."

## ADL5350ACPZ-R7
designator U?
LF to 4 GHz High Linearity Y-Mixer, 19mA Supply Current, CP-8-1, Pb-Free, 3000 Reel; RF Frequency (MHZ): LF to 4000; LO Drive (dBm): 4; Conversion Gain (dB): 6.8dB; IP3 (dBm): 25; P1dB (dBm): 19; NF (dB): 6.5dB; DatasheetVersion: Rev. 0; PackageVersion: 031207-A; PackageReference: CP-8-1; PackageDescription: 8-Lead Lead Frame Chip Scale Package [LFCSP_VD]; IF Frequency (MHz): LF to 4000; LO Frequency (MHz): LF to 4000; ComponentLink1Description: Manufacturer URL; ComponentLink1URL: www.analog.com; ComponentLink2Description: Datasheet; ComponentLink2URL: http://www.analog.com/static/imported-files/data_sheets/ADL5350.pdf; ComponentLink3Description: Package Specification; ComponentLink3URL: http://www.analog.com/static/imported-files/packages/PKG_PDF/LFCSP(CP)/CP-8/CP_8_1.pdf
footprint ADI-CP-8-1_N (SON, 8-Leads, Body 3x2mm, Pitch 0.5mm, Thermal Pad 1.75x0.45mm, IPC Medium Density)
footprint ADI-CP-8-1_L (SON, 8-Leads, Body 3x2mm, Pitch 0.5mm, Thermal Pad 1.75x0.45mm, IPC High Density)
footprint ADI-CP-8-1_M (SON, 8-Leads, Body 3x2mm, Pitch 0.5mm, Thermal Pad 1.75x0.45mm, IPC Low Density)
pins: 1 RF/IF (io) "Input/Output Ports. These nodes are internally tied together. RF and IF port separation is achieved using external tuning networks.", 2 GND2 (power) "Device Common (DC Ground)", 3 LOIN (in) "LO Input. Needs to be ac-coupled.", 4 NC "No Connect. Grounding NC pins is recommended.", 5 GND1 (power) "Device Common (DC Ground)", 6 VPOS (power) "Positive Supply Voltage for the Drain of the LO Buffer. A series RF choke is needed on the supply line to provide proper ac loading of the LO buffer amplifier.", 7 NC "No Connect. Grounding NC pins is recommended.", 8 RF/IF (io) "IF Input/Output Ports. These nodes are internally tied together. RF and IF port separation is achieved using external tuning networks.", 9 EP (power) "Exposed pad."

## ADL5350ACPZ-WP
designator U?
LF to 4 GHz High Linearity Y-Mixer, 19mA Supply Current, CP-8-1, Pb-Free, 50 Tray; RF Frequency (MHZ): LF to 4000; LO Drive (dBm): 4; Conversion Gain (dB): 6.8dB; IP3 (dBm): 25; P1dB (dBm): 19; NF (dB): 6.5dB; DatasheetVersion: Rev. 0; PackageVersion: 031207-A; PackageReference: CP-8-1; PackageDescription: 8-Lead Lead Frame Chip Scale Package [LFCSP_VD]; IF Frequency (MHz): LF to 4000; LO Frequency (MHz): LF to 4000; ComponentLink1Description: Manufacturer URL; ComponentLink1URL: www.analog.com; ComponentLink2Description: Datasheet; ComponentLink2URL: http://www.analog.com/static/imported-files/data_sheets/ADL5350.pdf; ComponentLink3Description: Package Specification; ComponentLink3URL: http://www.analog.com/static/imported-files/packages/PKG_PDF/LFCSP(CP)/CP-8/CP_8_1.pdf
footprint ADI-CP-8-1_N (SON, 8-Leads, Body 3x2mm, Pitch 0.5mm, Thermal Pad 1.75x0.45mm, IPC Medium Density)
footprint ADI-CP-8-1_L (SON, 8-Leads, Body 3x2mm, Pitch 0.5mm, Thermal Pad 1.75x0.45mm, IPC High Density)
footprint ADI-CP-8-1_M (SON, 8-Leads, Body 3x2mm, Pitch 0.5mm, Thermal Pad 1.75x0.45mm, IPC Low Density)
pins: 1 RF/IF (io) "Input/Output Ports. These nodes are internally tied together. RF and IF port separation is achieved using external tuning networks.", 2 GND2 (power) "Device Common (DC Ground)", 3 LOIN (in) "LO Input. Needs to be ac-coupled.", 4 NC "No Connect. Grounding NC pins is recommended.", 5 GND1 (power) "Device Common (DC Ground)", 6 VPOS (power) "Positive Supply Voltage for the Drain of the LO Buffer. A series RF choke is needed on the supply line to provide proper ac loading of the LO buffer amplifier.", 7 NC "No Connect. Grounding NC pins is recommended.", 8 RF/IF (io) "IF Input/Output Ports. These nodes are internally tied together. RF and IF port separation is achieved using external tuning networks.", 9 EP (power) "Exposed pad."

## ADL5353ACPZ-R7
designator U?
2200 MHz to 2700 MHz Balanced Mixer, LO Buffer, IF Amplifier, and RF Balun, 186mA Supply Current, CP-20-5, Pb-Free, 750 Reel; RF Frequency (MHZ): 2200 to 2700; IF Frequency (MHz): 30 to 450; LO Frequency (MHz): 2230 to 3150; Conversion Gain (dB): 8.7dB; IP3 (dBm): 24.5; P1dB (dBm): 10.4; NF (dB): 9.8dB; DatasheetVersion: Rev. 0; PackageVersion: 042209-B; PackageReference: CP-20-5; PackageDescription: 20-Lead Lead Frame Chip Scale Package [LFCSP_VQ]; Code_JEDEC: MO-220-VHHC; ComponentLink1Description: Manufacturer URL; ComponentLink1URL: www.analog.com; ComponentLink2Description: Datasheet; ComponentLink2URL: http://www.analog.com/static/imported-files/data_sheets/ADL5353.pdf; ComponentLink3Description: Package Specification; ComponentLink3URL: http://www.analog.com/static/imported-files/packages/PKG_PDF/LFCSP(CP)/CP_20_5.pdf
footprint ADI-CP-20-5_N (QFN, 20-Leads, Body 5x5mm, Pitch 0.65mm, Thermal Pad 3.1x3.1mm, IPC Medium Density)
footprint ADI-CP-20-5_L (QFN, 20-Leads, Body 5x5mm, Pitch 0.65mm, Thermal Pad 3.1x3.1mm, IPC High Density)
footprint ADI-CP-20-5_M (QFN, 20-Leads, Body 5x5mm, Pitch 0.65mm, Thermal Pad 3.1x3.1mm, IPC Low Density)
pins: 1 VPIF (power) "Positive Supply Voltage for IF Amplifier.", 2 RFIN (in) "RF Input. Must be ac-coupled.", 3 RFCT "RF Balun Center Tap (AC Ground).", 4 COMM (power) "Device Common (DC Ground).", 5 COMM (power) "Device Common (DC Ground).", 6 VLO3 (power) "Positive Supply Voltages for LO Amplifier.", 7 LGM3 (in) "LO Amplifier Bias Control.", 8 VLO2 (power) "Positive Supply Voltages for LO Amplifier.", 9 LOSW (in) "LO Switch. LOI1 selected for 0 V, and LOI2 selected for 3 V.", 10 NC "No Connect.", 11 LOI1 (in) "LO Inputs. Must be ac-coupled.", 12 VGS0 (in) "Mixer Gate Bias Controls. 3 V logic. Ground these pins for nominal setting", 13 VGS1 (in) "Mixer Gate Bias Controls. 3 V logic. Ground these pins for nominal setting", 14 VPSW (power) "Positive Supply Voltage for LO Switch.", 15 LOI2 (in) "LO Inputs. Must be ac-coupled.", 16 LEXT (power) "IF Return. This pin must be grounded.", 17 PWDN (in) "Power Down. Connect this pin to ground for normal operation and connect this pin to 3.0 V for disable mode.", 18 IFON (oc) "Differential IF Outputs (Open Collectors). Each requires an external dc bias", 19 IFOP (oc) "Differential IF Outputs (Open Collectors). Each requires an external dc bias", 20 IFGM (in) "IF Amplifier Bias Control", 21 EP (power) "Exposed Pad. The exposed pad must be soldered to ground."

## ADL5354ACPZ-R7
designator U?
2200 MHz to 2700 MHz, Dual-Balanced Mixer, LO Buffer, IF Amplifier, and RF Balun, 350mA Supply Current, CP-36-1, Pb-Free, 750 Reel; RF Frequency (MHZ): 2200 to 2700; IF Frequency (MHz): 30 to 450; LO Frequency (MHz): 1750 to 2670; Conversion Gain (dB): 8.6dB; IP3 (dBm): 26.1; P1dB (dBm): 10.6; NF (dB): 10.6dB; DatasheetVersion: Rev. 0; PackageVersion: 050808-D; PackageReference: CP-36-1; PackageDescription: 36-Lead Lead Frame Chip Scale Package [LFCSP_VQ]; Code_JEDEC: MO-220-VJJD-1; ComponentLink1Description: Manufacturer URL; ComponentLink1URL: www.analog.com; ComponentLink2Description: Datasheet; ComponentLink2URL: http://www.analog.com/static/imported-files/data_sheets/ADL5354.pdf; ComponentLink3Description: Package Specification; ComponentLink3URL: http://www.analog.com/static/imported-files/packages/CP_36_1.pdf
footprint ADI-CP-36-1_N (QFN, 36-Leads, Body 6x6mm, Pitch 0.5mm, Thermal Pad 3.7x3.7mm, IPC Medium Density)
footprint ADI-CP-36-1_L (QFN, 36-Leads, Body 6x6mm, Pitch 0.5mm, Thermal Pad 3.7x3.7mm, IPC High Density)
footprint ADI-CP-36-1_M (QFN, 36-Leads, Body 6x6mm, Pitch 0.5mm, Thermal Pad 3.7x3.7mm, IPC Low Density)
part A pins: 1 MNIN (in) "RF Input for Main Channel. Internally matched to 50 ohm. This pin must be ac-coupled.", 2 MNCT "Center Tap for Main Channel Input Balun. Bypass this pin to ground using low inductance capacitor.", 8 DVCT "Center Tap for Diversity Channel Input Balun. Bypass to ground using low inductance capacitor.", 9 DVIN (in) "RF Input for Diversity Channel. Internally matched to 50 ohm. This pin must be ac-coupled.", 11 DVGM "Diverstiy Amplifier Bias Setting. Connect a 1.3 k ohm resistor to ground for typical operation.", 13 DVOP (oc) "Diversity Channel Differential Open-Collector Outputs. DVOP and DVON should be pulled-up to  VCC using external inductors.", 14 DVON (oc) "Diversity Channel Differential Open-Collector Outputs. DVOP and DVON should be pulled-up to  VCC using external inductors.", 15 DVLE (power) "Diversity Channel IF Return. This pin must be grounded.", 17 DVLG "Diverstiy Channel LO Buffer Bias Setting. Connect a 1 k ohm resistor to ground for typical operation.", 18 NC "No Connect.", 19 LOI1 (in) "Local Oscillator Input 1. Internally matched to 50 ohm. This pin must be ac-coupled.", 22 PWDN (in) "Connect to Ground for Normal Operation. Connect this pin to 3 V for disable mode when using  VPOS < 3.6 V. PWDN pin must be grounded when VPOS > 3.6 V.", 23 LOSW (in) "Local Oscillator Input Selection Switch. Set LOSW high to select LOI1 or set LOSW low to select LOI2.", 24 VGS0 (in) "Gate to Source Control Voltages. For typical operation, set VGS0, VGS1, and VGS2 to low logic level.", 25 VGS1 (in) "Gate to Source Control Voltages. For typical operation, set VGS0, VGS1, and VGS2 to low logic level.", 26 VGS2 (in) "Gate to Source Control Voltages. For typical operation, set VGS0, VGS1, and VGS2 to low logic level.", 27 LOI2 (in) "Local Oscillator Input 2. Internally matched to 50 ohm. This pin must be ac-coupled.", 28 NC "No Connect.", 29 MNLG "Main Channel LO Buffer Bias Setting. Connect a 1 k ohm resistor to ground for typical operation.", 31 MNLE (power) "Main Channel IF Return. This pin must be grounded.", 32 MNOP (oc) "Main Channel Differential Open-Collector Outputs. MNOP and MNON should be pulled-up to  VCC using external inductors.", 33 MNON (oc) "Main Channel Differential Open-Collector Outputs. MNOP and MNON should be pulled-up to  VCC using external inductors.", 35 MNGM "Main Amplifier Bias Setting. Connect a 1.3 k ohm resistor to ground for typical operation."
part B pins: 3 COMM (power) "Device Common (DC Ground).", 4 VPOS (power) "Positive Supply Voltage.", 5 COMM (power) "Device Common (DC Ground).", 6 VPOS (power) "Positive Supply Voltage.", 7 COMM (power) "Device Common (DC Ground).", 10 VPOS (power) "Positive Supply Voltage.", 12 COMM (power) "Device Common (DC Ground).", 16 VPOS (power) "Positive Supply Voltage.", 20 COMM (power) "Device Common (DC Ground).", 21 VPOS (power) "Positive Supply Voltage.", 30 VPOS (power) "Positive Supply Voltage.", 34 COMM (power) "Device Common (DC Ground).", 36 VPOS (power) "Positive Supply Voltage.", 37 EP (power) "Exposed Paddle. Exposed pad must be connected to ground."